# EAGLE library part SIL (library Custom)
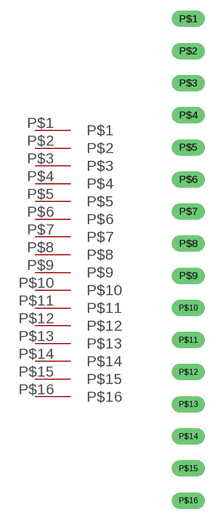
[diagram p1: symbol with the pads of SIL; footprint SIL]

Designator prefix -

## SIL  [SIL]
P$1  P$1
P$2  P$2
P$3  P$3
P$4  P$4
P$5  P$5
P$6  P$6
P$7  P$7
P$8  P$8
P$9  P$9
P$10  P$10
P$11  P$11
P$12  P$12
P$13  P$13
P$14  P$14
P$15  P$15
P$16  P$16

## Footprint SIL (pad centres in mm)
drill 0.813 long: P$1 0,19.05; P$2 0,16.51; P$3 0,13.97; P$4 0,11.43; P$5 0,8.89; P$6 0,6.35; P$7 0,3.81; P$8 0,1.27; P$9 0,-1.27; P$10 0,-3.81; P$11 0,-6.35; P$12 0,-8.89; P$13 0,-11.43; P$14 0,-13.97; P$15 0,-16.51; P$16 0,-19.05